# Altium schematic symbol library HM-10-module.SchLib: 1 symbol
Pins are listed as number, name and electrical type; pins without a type are passive.

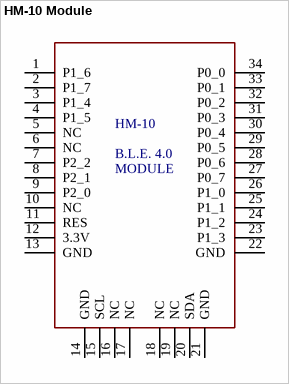
[diagram p0: symbol HM-10 Module]

## HM-10 Module
designator U2  (value not drawn)
footprint HM-10 module
pins: 1 P1_6, 2 P1_7, 3 P1_4, 4 P1_5, 5 NC, 6 NC, 7 P2_2, 8 P2_1, 9 P2_0, 10 NC, 11 RES, 12 3.3V, 13 GND, 14 GND, 15 SCL, 16 NC, 17 NC, 18 NC, 19 NC, 20 SDA, 21 GND, 22 GND, 23 P1_3, 24 P1_2, 25 P1_1, 26 P1_0, 27 P0_7, 28 P0_6, 29 P0_5, 30 P0_4, 31 P0_3, 32 P0_2, 33 P0_1, 34 P0_0
text: HM-10; B.L.E. 4.0; MODULE